# Altium schematic symbol library PCB_LightStateRF.SCHLIB: 26 symbols
Pins are listed as number, name and electrical type; pins without a type are passive.

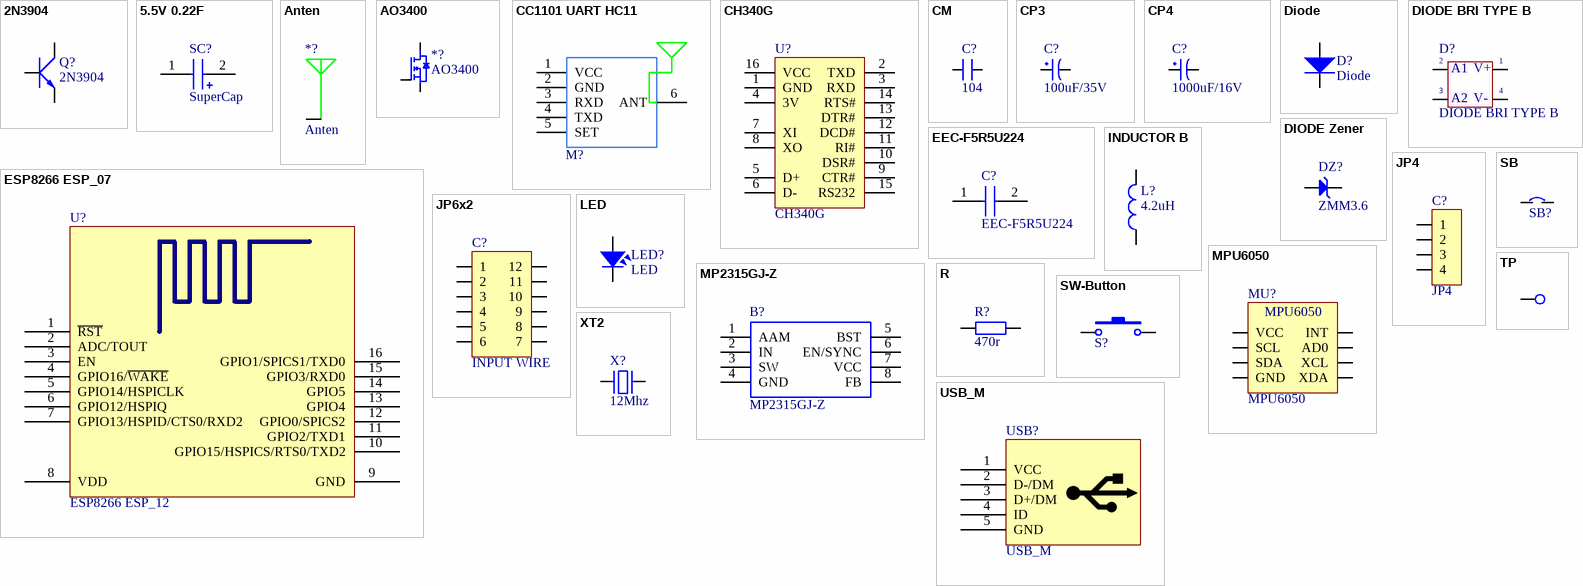
[diagram p0: symbols 2N3904 to XT2]

## 2N3904
designator Q?
NPN 600mW, ECB; Value: C1815
footprint TO92-123 (TO-92)
footprint SOT23-231
footprint TO92-123 - 1 (TO-92)
footprint TO92-123 - 2 (TO-92)
footprint TO92-123 - 3 (TO-92)
pins: 1 E, 2 B, 3 C

## 5.5V 0.22F
designator SC?, comment SuperCap
footprint SuperCapacitor
pins: 1 +, 2 -

## Anten
designator *?
footprint LOXO_433_NGANG
footprint LOXO_433_DOC
pins: 1

## AO3400
designator *?
footprint SOT23-123 (SOT23, 1=bottom-left, 2=top, 3=bottom-right)
footprint SOT23-123 (SOT23, 1=bottom-left, 2=top, 3=bottom-right)
pins: 1, 2, 3

## CC1101 UART HC11
designator M?, comment CC1101  (value not drawn)
OBIT TEAM / CC1101 UART 433MHZ
footprint CC1101 UART HC11
pins: 1 VCC, 2 GND, 3 RXD, 4 TXD, 5 SET, 6 ANT

## CH340G
designator U?
High and Low Side Driver; Note: Pins 4, 8 and 14 are not connected; Published: 8-Jun-2000; LatestRevisionDate: 04-Mar-2005; LatestRevisionNote: Stylized 3D Model Added.; DatasheetVersion: PD60147J; PackageReference: PDIP14; Publisher: Altium Limited; PackageDescription: DIP; 14 Leads; Row Spacing 7.62 mm; Pitch 2.54 mm; ComponentLink1Description: Manufacturer Link; ComponentLink1URL: http://www.irf.com/; ComponentLink2Description: Datasheet; ComponentLink2URL: http://www.irf.com/product-info/datasheets/data/ir2110.pdf
footprint SO16 (SOIC, 16-Leads, Body 9.90x3.91mm, Pitch 1.27mm, IPC Medium Density)
pins: 1 GND, 2 TXD, 3 RXD, 4 3V, 5 D+, 6 D-, 7 XI, 8 XO, 9 CTR#, 10 DSR#, 11 RI#, 12 DCD#, 13 DTR#, 14 RTS#, 15 RS232, 16 VCC

## CM
designator C?, comment 104
Cap SMD; Value: 103
footprint SM-0805 (Compoment SMD 80x50mil)
footprint SM-0402
footprint SM-0603
footprint RES-SMD-1206
footprint SM-2512
footprint SM-3225N (Chip Capacitor, Body 3.2x2.5mm, IPC Medium Density)
footprint SM-6728N (Chip Capacitor, Body 6.7x2.8mm, IPC Medium Density)
footprint SM-7238N (Chip Capacitor, Body 7.2x3.8mm, IPC Medium Density)
pins: 1, 2

## CP3
designator C?, comment 100uF/35V
Cap 100uF/35V - 470uF/16V; Value: 100uF/35V/50V; Description 1: 1000uF/6,3V - 470uF/16V - 330uF - 25V; Description 2: 220uF/35V - 100uF/50V - 63V - 4,7uF/200V; Description 3: 22uF => 33uF100V - 3,3uF => 4,7uF/250V; Description 4: 2,2uF =>3,3uF/350 - 2,2uF/400V - 1uF/450V
footprint CP1.5/3.4 (Tu hoa 220->470uF,16V, 470uF/16V,25V)
pins: 1, 2

## CP4
designator C?, comment 1000uF/16V
Cap 1000uF/16V - 220uF/50V; Description 5: 4,7uF>10uF/250V_3,3uF>10uF/400V - 2,2uF>4,7uF/450V; Description 1: 2200uF-3300uF/6,3V - 1000uF-2200uF/10V; Description 2: 1000uF/16V - 470uF => 1000uF/25V - 100uF/100V; Description 3: 330uF>470uF/35V_220uF>470uF/50V_10uF>22uF/250V; Description 4: 220uF => 330uF/63V - 10uF =>33uF/160 - 200V; Value: 1000uF/16V
footprint CP1.5/3.4 (Tu hoa 220->470uF,16V, 470uF/16V,25V)
pins: 1, 2

## Diode
designator D?
footprint D0.5A (Diode muoi, W 80mil, L 300mil)
footprint D1A (Diode 1A, W 100mil, L 350mil)
footprint D1AN (Diode 1A, W 100mil, L 150mil)
footprint D2A (Diode 2A, W 150mil, L 450mil)
footprint D2AN (Diode 2A, W 150mil, L 450mil)
footprint D5A (Diode 5A, W 200mil, L 550mil)
footprint D5AN (Diode 5A, W 200mil, L 250mil)
footprint DO-34
footprint DO-35
footprint DO-35 Vertical
footprint DO-41 (Diode 2A, W 150mil, L 450mil)
footprint DO-201AD (Diode 5A, W 200mil, L 550mil)
footprint DO-201AD-V (Diode 5A, W 200mil, L 550mil)
footprint DO-214AA
footprint DO-214AB
footprint DO-214AC
footprint DZ1A (Diode 1A, W 100mil, L 350mil)
footprint DZ2A (Diode 2A, W 150mil, L 450mil)
footprint SOD123
footprint DIO-SMD-106
footprint DIO-SMD-123
footprint DIO-SMD-B (Magnetic-Core Inductor with Winding Polarity Marking; 2 Leads)
pins: 1, 2

## DIODE BRI TYPE B
designator D?
Convert AC to DC voltage, 4 pin
footprint DIOD 4D4P1.0A8.90V (SILICON BRIDGE RECTIFIERS  PRV : 50 - 1000 Volts  Io : 1.5 Ampere)
footprint DIOD 4D4P1.0A10.4H
footprint DIOD 4D4P1.0A15.0V
footprint DIOD 4D4P2.0A14.9V (CAU 2A DET)
footprint DIOD 4D4P5.0A22.3V (Brigde 5A)
footprint DIOD 4D4P6.0A23.3V (Brigde 6A)
footprint DIOD 4D4P8.0A23.3V (Brigde 8A)
footprint DIOD 4D4P10A23.3V (Brigde 10A)
footprint DIOD 4D4P25A30.3V
footprint DIOD 4D4P35A28.8H (35A/1000V)
footprint DIOD 4D4P40A30.0H (40A/1000V)
footprint DIO 4S4P1109H (SOT143, 4-Leads, Body 2.90x2.30mm, Pitch 1.90mm, IPC Medium Density)
footprint DIO 4S4PDF02S
footprint DIO 4S4P1414H (LTV-357T SOP, 4-Leads, Body 3.85x4.4mm, Pitch 2.54mm, IPC Medium Density)
pins: 1 +V OUT, 2 AC1, 3 AC2, 4 -V OUT
text: A1; V+; A2; V-

## DIODE Zener
designator DZ?, comment ZMM3.6
DIODE GEN PURP 75V 200MA LLDS
footprint DIOD 1D2P0.5A5.08HA
footprint DIOD 1D2P0.5A5.08H (Diode muoi, W 80mil, L 300mil)
footprint DIOD 1D2P0.5A7.62H
footprint DIOD 1D2P0.5A10.1H
footprint DIOD 1D2P1.0A2.67V (Diode 1A, W 100mil, L 150mil)
footprint DIOD 1D2P1.0A7.62H (Diode 1A, W 100mil, L 350mil)
footprint DIOD 1D2P1.0A7.62HA
footprint DIOD 1D2P1.0A10.1H
footprint DIOD 1D2P2.0A2.90V (Diode 2A, W 150mil, L 450mil)
footprint DIOD 1D2P2.0A12.7H (Diode 2A, W 150mil, L 450mil)
footprint DIOZ 1D2P1.0A2.54V
footprint DIOZ 1D2P1.0A5.08H
footprint DIOZ 1D2P1.0A7.5H
footprint DIOZ 1D2P1.0A10.1H
footprint DIOZ 1D2P1.0A12.5H
footprint DIOZ 1D2P5.0A15.2H
footprint DIOZ 1D2P5.0A15.2HA
footprint DIOZ 1D2P5.0A17.8H
footprint DIO 1S2P1407H (SODFL 123F, 2-Leads, Body 1.60x3.50mm, IPC Medium Density)
footprint DIO 1S2P1206H (SOD123, 2-Leads, Body 1.55x3.70mm, IPC Medium Density)
footprint DIOS 1S2P1406H
footprint DIOS 1S2P0704H
footprint DIOS 1S2P1408H
footprint DIOS 1S2P2010H
pins: 1 A, 2 K

## EEC-F5R5U224
designator C?
Capacitor; Manufacturer_Name: Panasonic; Allied_Number: 70256182; Datasheet Link: https://industrial.panasonic.com/cdbs/www-data/pdf/RDG0000/ABC0000C90.pdf; Height: 7.5mm; Manufacturer_Part_Number: EEC-F5R5U224; Mouser Part Number: 667-EEC-F5R5U224; Mouser Price/Stock: https://www.mouser.com/Search/Refine.aspx?Keyword=667-EEC-F5R5U224; Allied Price/Stock: https://www.alliedelec.com/panasonic-eec-f5r5u224/70256182/
footprint CAPPRD500W95D1350H750
pins: 1 +, 2 -

## ESP8266 ESP_07
designator U?, comment ESP8266 ESP_12
ESP8266 ESP-12; IC: ESP8266-EX; Vendor: Ai-thinker; LatestReviewer: Zion Blue; Published: 14-Apr-2015; Publisher: Cynetik Group; LatestRevisionData: 14-Apr-2015; LatestRevisionNote: Include 3D body and Footprint
footprint ESP8266 ESP_12 (ESP8266 ESP-12)
pins: 1 ~{RST} "Reset", 2 ADC/TOUT "ADC Input Or TOUT Output", 3 EN "Chip enable", 4 GPIO16/~{WAKE} "GPIO16 or Deep-Sleep Wakeup", 5 GPIO14/HSPICLK "GPIO14 or SPI CLK", 6 GPIO12/HSPIQ "GPIO12 or SPIQ", 7 GPIO13/HSPID/CTS0/RXD2 "GPIO13 or SPID", 8 VDD "Power supply", 9 GND "Power ground", 10 GPIO15/HSPICS/RTS0/TXD2 "GPIO15 or SPICS", 11 GPIO2/TXD1 "GPIO2 or TX", 12 GPIO0/SPICS2 "GPIO0 or SPICS2", 13 GPIO4 "GPIO5", 14 GPIO5 "GPIO4", 15 GPIO3/RXD0 "GPIO3 or UART RXD", 16 GPIO1/SPICS1/TXD0 "GPIO1 or UART TXD"

## INDUCTOR B
designator L?, comment 4.2uH
footprint L_V1
footprint L 330uH
footprint L1
footprint INDUCTOR 2 5x6x4.5 ((C?m tháo trên m?ch dk LED-China))
footprint IND 4532-2P
pins: 1, 2

## JP4
designator C?
WR-PHD 2.54 mm Angled Socket Header; Manufacturer: W¨¹rth Elektronik eiSos GmbH; partNo: 613004143121; ComponentLink1 Description: Manufacturer; ComponentLink2 Description: Datasheet; NoPins: 04; Created Date: 29 March 2013; ComponentLink1URL: http://www.we-online.com; ComponentLink2URL: http://katalog.we-online.de/em/datasheet/6130xx143121.pdf; Created by: Karrer Zheng
footprint JP4-C1T (4 row, straight, gold plating)
footprint JP4-D1C (4 pins, 1 row, right angled, gold plating)
footprint JP4-C1C (04p 1 row Right angle)
footprint JP4-D1C (4 pins, 1 row, right angled, gold plating)
pins: 1, 2, 3, 4

## JP6x2
designator C?, comment INPUT WIRE
WR-PHD 2.54 mm Dual Socket Header; Manufacturer: W¨¹rth Elektronik eiSos GmbH; partNo: 61301221821; ComponentLink1 Description: Manufacturer; ComponentLink2 Description: Datasheet; NoPins: 12; Created Date: 29 March 2013; ComponentLink1URL: http://www.we-online.com; ComponentLink2URL: http://katalog.we-online.de/em/datasheet/6130xx21821.pdf; Created by: Karrer Zheng
footprint JP6-D2T (12 pins, dual pin, straight, gold plating)
footprint JP6-D2C (12 pins, dual row, right angled, gold plating)
footprint JP6-C2C (12p 2 rows Right angle)
footprint JP6-C2T (12 pins, dual row, straight, gold plating)
pins: 1, 2, 3, 4, 5, 6, 7, 8, 9, 10, 11, 12

## LED
designator LED?
footprint SM-LED-0805-Blue
footprint SM-LED-0805-Green
footprint SM-LED-0805-Orange
footprint SM-LED-0805-Red
footprint SM-LED-0805-Yellow
footprint SM-LED-1206-Blue (Compoment SMD 120x60mil)
footprint SM-LED-1206-Green
footprint SM-LED-1206-Orange
footprint SM-LED-1206-Red
footprint SM-LED-1206-Yellow
footprint LED-3 (LED 2 PIN, 3ly Only colour)
footprint LED-5-BLUE (LED 2 PIN, 5 ly , Only colour, pin to pin 110mil)
footprint LED-5-Green (LED 2 PIN, 5 ly , Only colour,pin to pin 100mil)
footprint LED-5-WHITE (LED 2 PIN, 5 ly , Only colour, pin to pin 110mil)
footprint LED-5-Yellow (LED 2 PIN, 5 ly , Only colour,pin to pin 100mil)
pins: 1, 2

## MP2315GJ-Z
designator B?
Switching Voltage Regulators 3A 24V 500kHz Sync buck; Manufacturer_Name: Monolithic Power Systems (MPS); Geometry.Height: 1mm; Manufacturer_Part_Number: MP2315GJ-Z; RS Part Number: *; RS Price/Stock: *; Arrow Part Number: MP2315GJ-Z; Arrow Price/Stock: *; Datasheet Link: https://componentsearchengine.com/Datasheets/1/MP2315GJ-Z.pdf
footprint SOT65P280X100-8N
pins: 1 AAM, 2 IN, 3 SW, 4 GND, 5 BST, 6 EN/SYNC, 7 VCC, 8 FB

## MPU6050
designator MU?
Manufacturer: W¨¹rth Elektronik eiSos GmbH; partNo: 613004143121; ComponentLink1 Description: Manufacturer; ComponentLink2 Description: Datasheet; NoPins: 04; Created Date: 29 March 2013; ComponentLink1URL: http://www.we-online.com; ComponentLink2URL: http://katalog.we-online.de/em/datasheet/6130xx143121.pdf; Created by: Karrer Zheng
footprint MPU6050
pins: 1 VCC, 2 GND, 3 SCL, 4 SDA, 5 XDA, 6 XCL, 7 AD0, 8 INT

## R
designator R?, comment 470r
Resistor R1/4W
footprint RES-1/4W
footprint RES-1/4W-SMALL
footprint RES-1/4WD
footprint RES-SMD-0101
footprint RES-SMD-0201
footprint RES-SMD-0402
footprint RES-SMD-0603
footprint RES-SMD-0805
footprint RES-SMD-1206
footprint RES-SMD-1210 (Chip Capacitor, Body 3.2x2.5mm, IPC Medium Density)
footprint RES-SMD-1812 (Chip Capacitor, Body 3.2x2.5mm, IPC Medium Density)
footprint RES-SMD-2010 (Chip Capacitor, Body 3.2x2.5mm, IPC Medium Density)
footprint RES-SMD-2512 (Chip Capacitor, Body 3.2x2.5mm, IPC Medium Density)
footprint RES-1/2W
footprint RES-1/8W
footprint RES-1/8W-SMALL (R 1/8W, 2 pin, 200mil)
footprint RES-1/8W-SMALL-2 (R 1/8W, 2 pin, 200mil)
footprint RES-1/8WD
footprint RES-1W
footprint RES-1W-LONG
footprint RES-1WD
footprint RES-2W (R2W, 2 pin, 700mil)
footprint RES-5W (R5W , 2 pin, 400 x 950mil)
footprint RES-5WD (R5W , 2 pin, 300 x 600 mil)
pins: 1, 2

## SB
designator SB?  (value not drawn)
footprint SB
pins: 1, 2

## SW-Button
designator S?, comment SW  (value not drawn)
Switch-Button; Published: 24-Mar-1999; LatestRevisionDate: 17-Jul-2002; LatestRevisionNote: Re-released for DXP Platform.; PackageReference: SPST-2; Publisher: Altium Limited
footprint BUTTON  ROUND
footprint BUTTON-SMD 2PIN (Switch SMD type)
footprint BUTTON-SMD on Board (Switch SMD type)
footprint BUTTON RIGHT ANGLE
pins: 1, 2

## TP
designator *TP?  (value not drawn)
footprint TP
pins: 1

## USB_M
designator USB?
footprint USB_B_MINI_SMD
footprint USB-M1
footprint USB-M4
footprint USB-M6 (MOLEX 51387-0571)
footprint USB-M2
footprint USB-M3
pins: 1 VCC, 2 D-/DM, 3 D+/DM, 4 ID, 5 GND

## XT2
designator X?, comment 12Mhz
Crystal, 32.768 KHz, -40 to 85 degC, 3.2 x 1.5 x 0.9 mm SMD; Value: 4Mhz
footprint XT2 (Footpin for Crystal 2 pin)
footprint XT2N (Crystal 2pin, high 200 mil)
footprint XT2-L (Footpin for Crystal 2 pin)
footprint XT32k
footprint XT2-SMD
footprint XTAL-RU49/4
footprint XT2-32.768KHz-2_V (Hand Drawn, 2-Leads, Body 3.2x1.5mm, Pitch 2.5mm)
pins: 1, 2